# Altium integrated library Everlight.IntLib: 1 symbol
Pins are listed as number, name and electrical type; pins without a type are passive.

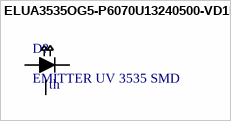
[diagram p0: symbol ELUA3535OG5-P6070U13240500-VD1M]

## ELUA3535OG5-P6070U13240500-VD1M
designator D?, comment EMITTER UV 3535 SMD
Ultraviolet (UV) Emitter 365nm (360nm ~ 370nm) 3.6V 700mA  50° 1414 (3535 Metric); MPN: ELUA3535OG5-P6070U13240500-VD1M; Supplier Part Number 1: 1080-1630-1-ND; Supplier 1: Digi-Key
footprint ELUS3535OG5
pins: 1 A, 2 C, 3 th